# EAGLE library part 929850-01-06-RB (library SamacSys_Parts)
Headers & Wire Housings 6P STRT BRD MNT SKT 1 ROW 30MICRO" AU Source: Datasheet <https://www.mouser.fr/datasheet/2/1/ts0815-31700.pdf>
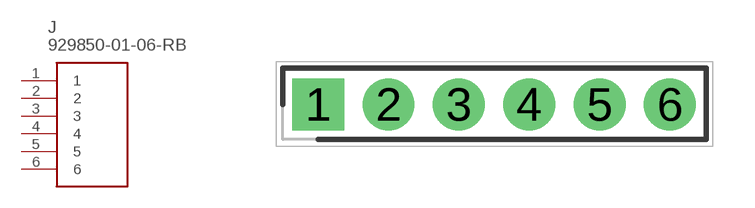
[diagram p2: symbol with the pads of RHDR6W76P0X254_1X6_1524X254X82; footprint RHDR6W76P0X254_1X6_1524X254X82]

Designator prefix J

## 929850-01-06-RB (DESCRIPTION: Headers & Wire Housings 6P STRT BRD MNT SKT 1 ROW 30MICRO" AU; HEIGHT: 8.26mm; MANUFACTURER_NAME: 3M; MANUFACTURER_PART_NUMBER: 929850-01-06-RB; MOUSER_PART_NUMBER: 517-929850-01-06-RB; MOUSER_PRICE-STOCK: https://www.mouser.co.uk/ProductDetail/3M-Electronic-Solutions-Division/929850-01-06-RB?qs=s3by4FhMkp1OostaNDHGSw%3D%3D)  [RHDR6W76P0X254_1X6_1524X254X82]
1  1
2  2
3  3
4  4
5  5
6  6

## Footprint RHDR6W76P0X254_1X6_1524X254X82 (pad centres in mm)
929850-01-06-RB
drill 1.25 pad 1.875 square: 1 0,0
drill 1.25 pad 1.875: 2 2.54,0; 3 5.08,0; 4 7.62,0; 5 10.16,0; 6 12.7,0